# Altium schematic symbol library LIS2DH12.SchLib: 1 symbol
Pins are listed as number, name and electrical type; pins without a type are passive.

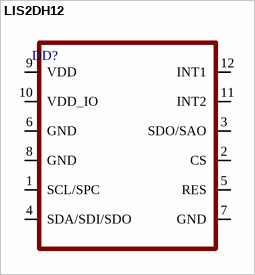
[diagram p0: symbol LIS2DH12]

## LIS2DH12
designator DD?
pins: 1 SCL/SPC, 2 CS, 3 SDO/SAO, 4 SDA/SDI/SDO, 5 RES, 6 GND, 7 GND, 8 GND, 9 VDD, 10 VDD_IO, 11 INT2, 12 INT1